# EAGLE library part AD7746 (library m-pad)
Analog Devices AD7746 24-Bit Capacitance-to-Digital Converter with Temperature Sensor Description: The AD7745/AD7746 are a high resolution, Sigma-Delta capacitance-to-digital converter (CDC). The capacitance to be measured is connected directly to the device inputs. The architecture fea-tures inherent high resolution (24-bit no missing codes, up to 21-bit effective resolution), high linearity (±0.01%), and high accuracy (±4 fF factory calibrated). The AD7745/AD7746 capacitance input range is ±4 pF (changing), while it can accept up to 17 pF common-mode capacitance (not changing), which can be balanced by a programmable on-chip, digital-to-capacitance converter (CAPDAC). The AD7745 has one capacitance input channel, while the AD7746 has two channels. Each channel can be configured as single-ended or differential. The AD7745/AD7746 are designed for floating capacitive sensors. For capacitive sensors with one plate connected to ground, the AD7747 is recommended. The parts have an on-chip temperature sensor with a resolution of 0.1°C and accuracy of ±2°C. The on-chip voltage reference and the on-chip clock generator eliminate the need for any external components in capacitive sensor applications. The parts have a standard voltage input, which together with the differential reference input allows easy interface to an external temperature sensor, such as an RTD, thermistor, or diode. The AD7745/AD7746 have a 2-wire, I2C-compatible serial interface. Both parts can operate with a single power supply from 2.7 V to 5.25 V. They are specified over the automotive temperature range of -40°C to +125°C and are housed in a 16-lead TSSOP package. Features: Capacitance-to-digital converter - New standard in single chip solutions - Interfaces to single or differential floating sensors - Resolution down to 4 aF (that is, up to 21 ENOB) - Accuracy: 4 fF - Linearity: 0.01% - Common-mode (not changing) capacitance up to 17 pF - Full-scale (changing) capacitance range: ±4 pF - Tolerant of parasitic capacitance to ground up to 60 pF - Update rate: 10 Hz to 90 Hz - Simultaneous 50 Hz and 60 Hz rejection at 16 Hz Temperature sensor on-chip - Resolution: 0.1°C, accuracy: ±2°C Voltage input channel Internal clock oscillator 2-wire serial interface (I2C®-compatible) Power - 2.7 V to 5.25 V single-supply operation - 0.7 mA current consumption Operating temperature: -40°C to +125°C 16-lead TSSOP package Applications: Automotive, industrial, and medical systems for - Pressure measurement - Position sensing - Level sensing - Flowmeters - Humidity sensing - Impurity detection Please send any comments to: messi@users.sourceforge.net
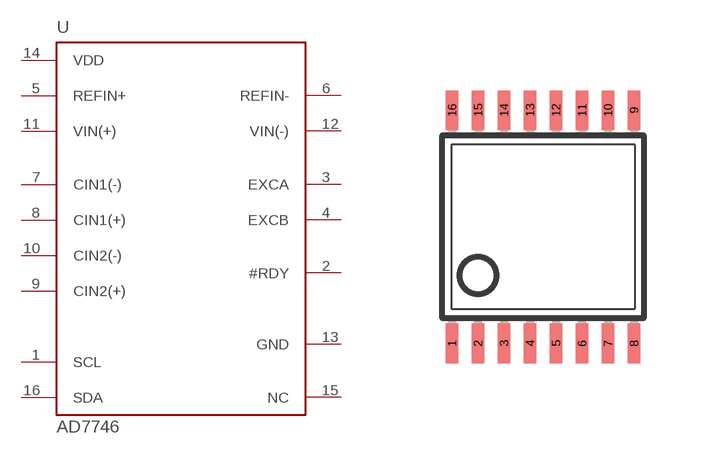
[diagram p152: symbol with the pads of TSSOP16; footprint TSSOP16]

Designator prefix U

## AD7746  [TSSOP16]
1  SCL  in
2  #RDY  out
3  EXCA  out
4  EXCB  out
5  REFIN+  in
6  REFIN-  in
7  CIN1(-)  in
8  CIN1(+)  in
9  CIN2(+)  in
10  CIN2(-)  in
11  VIN(+)  in
12  VIN(-)  in
13  GND  pwr
14  VDD  pwr
15  NC  nc
16  SDA

## Footprint TSSOP16 (pad centres in mm)
Thin Shrink Small Outline Plastic 16 MAX3223-MAX3243.pdf
smd 0.305 x 0.991: 1 -2.275,-2.918; 2 -1.625,-2.918; 3 -0.975,-2.918; 4 -0.325,-2.918; 5 0.325,-2.918; 6 0.975,-2.918; 7 1.625,-2.918; 8 2.275,-2.918; 9 2.275,2.918; 10 1.625,2.918; 11 0.975,2.918; 12 0.325,2.918; 13 -0.325,2.918; 14 -0.975,2.918; 15 -1.625,2.918; 16 -2.275,2.918